# EAGLE library part LCD-16X2 (library newhaven-lcd)
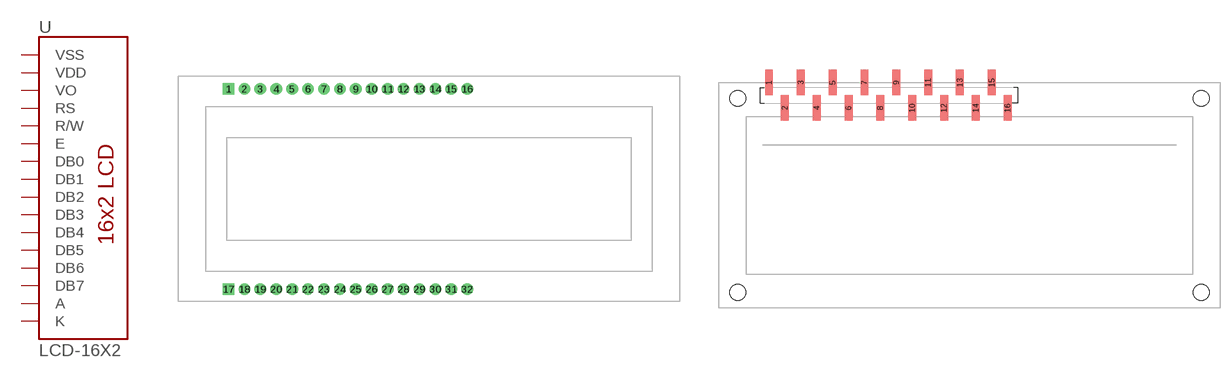
[diagram p0: symbol with the pads of NHD‐0216K1Z; footprints NHD‐0216K1Z, NHD‐0216K1Z-SMD]

Designator prefix -

## LCD-16X2  [NHD‐0216K1Z]
1  VSS  pwr
2  VO
3  VDD  pwr
4  RS  in
5  R/W  in
6  E  in
7  DB0
8  DB1
9  DB2
10  DB3
11  DB4
12  DB5
13  DB6
14  DB7
15  A  pwr
16  K  pwr

## LCD-16X2SMD  [NHD‐0216K1Z-SMD]
1  VSS  pwr
2  VDD  pwr
3  VO
4  RS  in
5  R/W  in
6  E  in
7  DB0
8  DB1
9  DB2
10  DB3
11  DB4
12  DB5
13  DB6
14  DB7
15  A  pwr
16  K  pwr

## Footprint NHD‐0216K1Z (pad centres in mm)
drill 1.016 pad 1.88 square: 1 -32,16; 17 -32,-16
drill 1.016 pad 1.88: 2 -29.46,16; 3 -26.92,16; 4 -24.38,16; 5 -21.84,16; 6 -19.3,16; 7 -16.76,16; 8 -14.22,16; 9 -11.68,16; 10 -9.14,16; 11 -6.6,16; 12 -4.06,16; 13 -1.52,16; 14 1.02,16; 15 3.56,16; 16 6.1,16; 18 -29.46,-16; 19 -26.92,-16; 20 -24.38,-16; 21 -21.84,-16; 22 -19.3,-16; 23 -16.76,-16; 24 -14.22,-16; 25 -11.68,-16; 26 -9.14,-16; 27 -6.6,-16; 28 -4.06,-16; 29 -1.52,-16; 30 1.02,-16; 31 3.56,-16; 32 6.1,-16

## Footprint NHD‐0216K1Z-SMD (pad centres in mm)
smd 1.27 x 4.064: 1 -32,18.032; 2 -29.46,13.968; 3 -26.92,18.032; 4 -24.38,13.968; 5 -21.84,18.032; 6 -19.3,13.968; 7 -16.76,18.032; 8 -14.22,13.968; 9 -11.68,18.032; 10 -9.14,13.968; 11 -6.6,18.032; 12 -4.06,13.968; 13 -1.52,18.032; 14 1.02,13.968; 15 3.56,18.032; 16 6.1,13.968
hole 2.5 at -37,15.5
hole 2.5 at 37,15.5
hole 2.5 at 37,-15.5
hole 2.5 at -37,-15.5